# Altium footprint library MAX14871_Project.PcbLib: 22 footprints (part 2 of 2)
Each footprint in its own frame and in the unit in brackets; x right, y up, seen from the top. Pads: shape width x height; smd on the part's side, far side on the other; paste and mask are expansions set on the pad; w line width, h text height; cw(c..) or ccw(c..) is an arc to the next point about the centre after c.
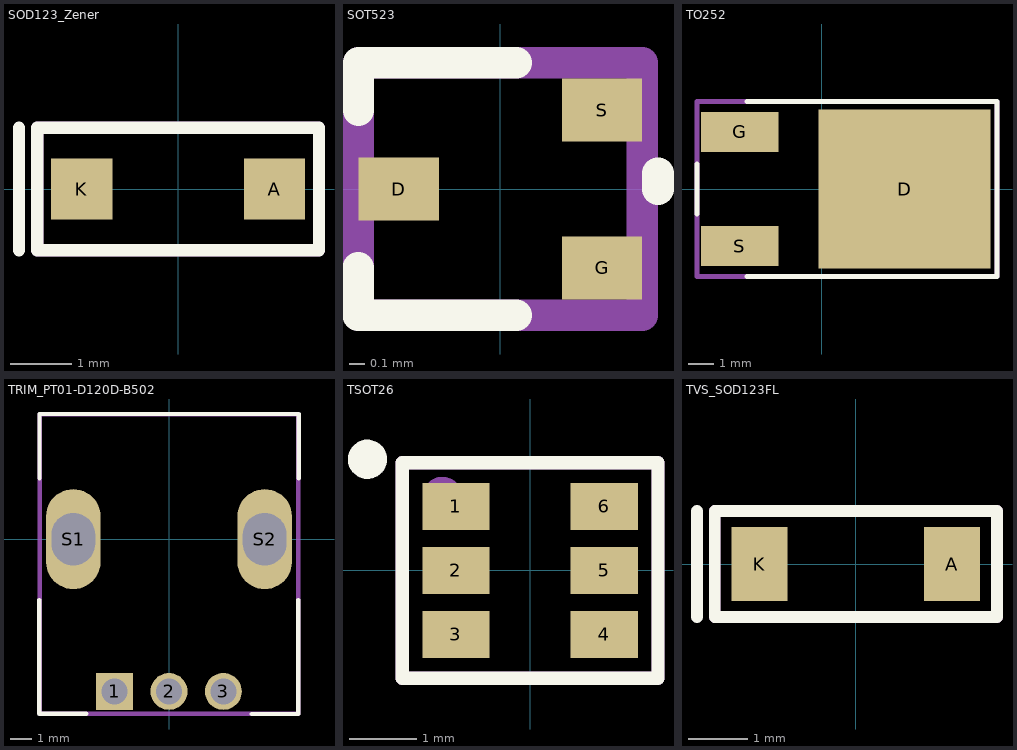
[diagram p1: the footprints below, top view; thin cyan lines are the x and y axes]

## SOD123_Zener [mm]
pads (2):
  rect 1x1 smd: A(1.575,0) K(-1.575,0)
Top Overlay:
  lines w0.2: -2.6,-1 -2.6,1 ; -2.3,-1 2.3,-1 2.3,0.7 2.3,1 -2.3,1 -2.3,0.7 -2.3,-0.7 -2.3,-1
Mechanical 29 (Mech29):
  lines w0.2: -2.3,-1 2.3,-1 2.3,1 -2.3,1 -2.3,-1
  text ".designator" at -0.8,-0.333 h0.8
3D body "Zener_SOD123.step": height 1.18, standoff 0, extent -1.95,-0.9 1.95,0.9

## SOT523 [mm]
pads (3):
  rect 0.51x0.4 smd: D(-0.645,0) G(0.645,-0.5) S(0.645,0.5)
Top Overlay:
  lines w0.2: -0.902,-0.5 -0.902,-0.8 -0.3,-0.8 0.1,-0.8 ; -0.9,0.5 -0.9,0.8 -0.3,0.8 0.1,0.8 ; 1,0 1,0.1
Mechanical 29 (Mech29):
  lines w0.2: -0.9,-0.8 -0.9,0.8 0.1,0.8 0.9,0.8 0.9,-0.8 -0.9,-0.8
  text ".designator" at -0.4,-0.233 h0.5
3D body "SOT-523.step": height 0.81, standoff -0.04, extent -0.799,-0.8 0.828,0.8

## TO252 [mm]
pads (3):
  rect 6.9x6.35 smd: D(3.3,0)
  rect 3.1x1.6 smd: G(-3.3,2.286) S(-3.3,-2.286)
Top Overlay:
  lines w0.2: -5,-1 -5,1 ; -3,-3.5 7,-3.5 7,3.5 -3,3.5
Mechanical 29 (Mech29):
  lines w0.2: -5,-3.5 -5,3.5 7,3.5 7,-3.5 -5,-3.5
  text ".designator" at -2.7,-0.733 h1.4
3D body "TO252.STEP": height 2.56, standoff -0.16, extent -3.955,-3.27 5.955,3.27

## TRIM_PT01-D120D-B502 [mm]
pads (5):
  rect 1.7x1.7 hole 1.2: 1(-2.5,-7)
  round 1.7 hole 1.2: 2(0,-7) 3(2.5,-7)
  oval 2.5x4.6 hole 2 slot 2.4 at 90 deg: S1(-4.4,0) S2(4.4,0)
Top Overlay:
  lines w0.2: -5.959,-2.8 -5.959,-8.031 -3.8,-8.031 ; -5.958,2.8 -5.958,5.757 5.961,5.757 5.961,2.8 ; 3.8,-8.039 5.948,-8.039 5.948,-2.8
Mechanical 29 (Mech29):
  lines w0.2: -5.95,-8.03 5.95,-8.03 5.95,5.75 -5.95,5.75 -5.95,-8.03
  text ".designator" at -2.5,-11.8 h1.8
3D body "rk09d1130a1l.stp": height 24.93, standoff -3.77, extent -5.7,-7.15 5.698,5.5

## TSOT26 [mm]
pads (6):
  rect 1x0.7 smd mask+0.025: 1(-1.1,0.95) 2(-1.1,0) 3(-1.1,-0.95) 4(1.1,-0.95) 5(1.1,0) 6(1.1,0.95)
Top Overlay:
  circle w0.3: c-2.413,1.651 r0.141
  lines w0.2: -1.9,-1.6 1.9,-1.6 1.9,1.6 -1.9,1.6 -1.9,-1.6
Mechanical 29 (Mech29):
  circle w0.3: c-1.3,1.1 r0.141
  lines w0.2: -1.9,-1.6 1.9,-1.6 1.9,1.6 -1.9,1.6 -1.9,-1.6
  text ".designator" at -0.7,-0.333 h0.8
3D body "TSOT26.step": height 1.4, standoff 0, extent -1.5,-1.55 1.5,1.55

## TVS_SOD123FL [mm]
pads (2):
  rect 0.95x1.25 smd: A(1.635,0) K(-1.635,0)
Top Overlay:
  lines w0.2: -2.7,-0.9 -2.7,0.9 ; -2.4,-0.9 -2.4,0.9 2.4,0.9 2.4,-0.9 -2.4,-0.9
Mechanical 29 (Mech29):
  lines w0.2: -2.4,-0.9 -2.4,0.9 2.4,0.9 2.4,-0.9 -2.4,-0.9
  text ".designator" at -1,-0.333 h0.8
3D body "SOD-123FL.step": height 0.95, standoff 0.01, extent -1.794,-0.825 1.794,0.825